# EAGLE library part LTC3499B (library PowerProducts)
LT-Spice library generated with : ltspice.ulp from: D:/Program Files (x86)/LTC/LTspiceIV/lib/sym/PowerProducts/LTC3521*.asy at 07.10.2012 18:11:28
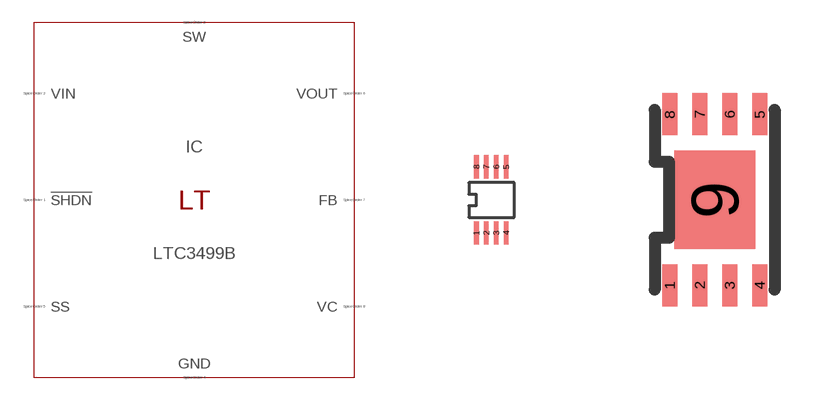
[diagram p197: symbol with the pads of MSOP8(MS8); footprints MSOP8(MS8), DFN8(DD)]

Designator prefix IC

## LTC3499BMS8 (SPICEMODEL: LTC3499B.sub; SPICEPREFIX: X; VALUE2: LTC3499B)  [MSOP8(MS8)]
1  !SHDN  pas
2  VIN  pas
3  SW  pas
4  GND  pas
5  SS  pas
6  VOUT  pas
7  FB  pas
8  VC  pas

## LTC3499B (SPICEMODEL: LTC3499B.sub; SPICEPREFIX: X; VALUE2: LTC3499B)  [DFN8(DD)]
1  !SHDN  pas
2  VIN  pas
3  SW  pas
4  GND  pas
5  SS  pas
6  VOUT  pas
7  FB  pas
8  VC  pas
9  GND  pas

## Footprint MSOP8(MS8) (pad centres in mm)
Package generated from: MSOP8(MS8).asc (!PADS-POWERPCB-V5.0-BASIC! DESIGN DATABASE ASCII FILE 1.0) with :import-pads-powerpcb-v5.ulp Version 1.0.1 at 04.10.2012 14:11:20
smd 0.116 x 0.581: 1 -0.372,-0.827; 2 -0.124,-0.827; 3 0.124,-0.827; 4 0.372,-0.827; 5 0.372,0.827; 6 0.124,0.827; 7 -0.124,0.827; 8 -0.372,0.827

## Footprint DFN8(DD) (pad centres in mm)
Package generated from: DFN8(DD).asc (!PADS-POWERPCB-V5.0-BASIC! DESIGN DATABASE ASCII FILE 1.0) with :import-pads-powerpcb-v5.ulp Version 1.0.1 at 04.10.2012 14:11:17
smd 0.375 x 1.05: 1 -1.125,-2.138; 2 -0.375,-2.138; 3 0.375,-2.138; 4 1.125,-2.138; 5 1.125,2.138; 6 0.375,2.138; 7 -0.375,2.138; 8 -1.125,2.138
smd 2.025 x 2.475: 9 0,0